# Altium schematic symbol library 51kOhm 0603 RES.SchLib: 1 symbol
Pins are listed as number, name and electrical type; pins without a type are passive.

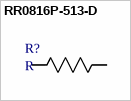
[diagram p0: symbol RR0816P-513-D]

## RR0816P-513-D
designator R?, comment R
Imported; Manufacturer Part Number: RR0816P-513-D; Vendor: Susumu; Built_By: EMA_UL_Team; Value: 51k; C: Copyright (C) 2015 Accelerated Designs. All rights reserved; RefDes: RefDes; Type: DEV
footprint RES_0816
footprint RES_0816
footprint RC0603N-M
footprint RES_0816-M
pins: 1, 2